# Altium schematic symbol library G5NB-1A-E-DC5V.Schlib: 1 symbol
Pins are listed as number, name and electrical type; pins without a type are passive.

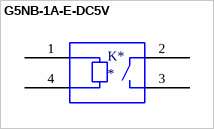
[diagram p0: symbol G5NB-1A-E-DC5V]

## G5NB-1A-E-DC5V
designator K*
General Purpose Non Latching 5VDC SPST-NO 5A Through Hole Relays RoHS; ComponentLink1Description: LCSC - Omron Electronics G5NB-1A-E-DC5V; ComponentLink1URL: https://lcsc.com/product-detail/Relays_OMRON_G5NB-1A-E-DC5V_G5NB-1A-E-DC5V_C48746.html; LCSC Part #: C48746
footprint G5NB Omron Relay
pins: 1, 2, 3, 4